# EAGLE library part VME1 (library connect)
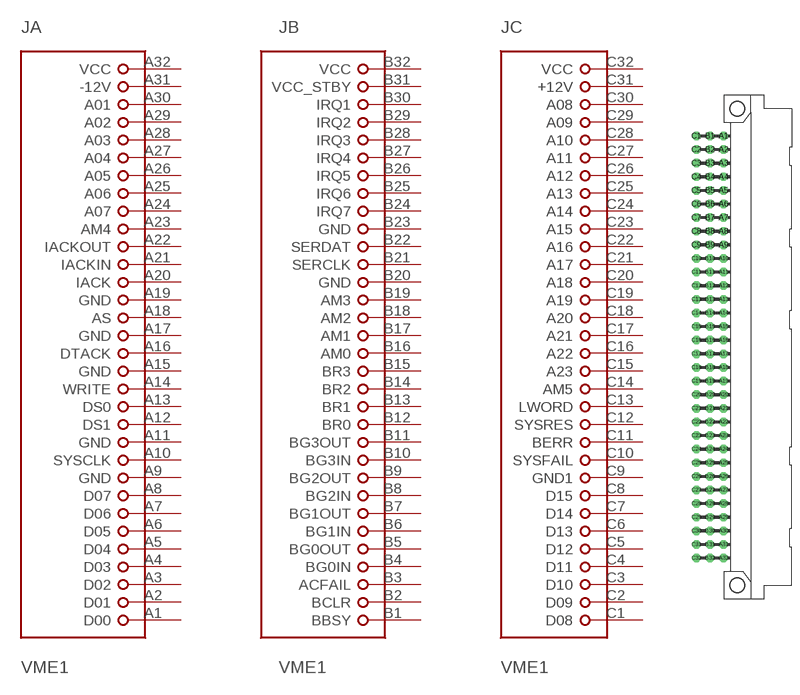
[diagram p16: symbol with the pads of VG96M/90; footprint VG96M/90]

Designator prefix J; gates A=VME1A B=VME1B C=VME1C

## VME1  [VG96M/90]
A1  A:D00  hiz
A2  A:D01  hiz
A3  A:D02  hiz
A4  A:D03  hiz
A5  A:D04  hiz
A6  A:D05  hiz
A7  A:D06  hiz
A8  A:D07  hiz
A9  A:GND  pwr
A10  A:SYSCLK
A11  A:GND  pwr
A12  A:DS1
A13  A:DS0
A14  A:WRITE
A15  A:GND  pwr
A16  A:DTACK  oc
A17  A:GND  pwr
A18  A:AS  hiz
A19  A:GND  pwr
A20  A:IACK  oc
A21  A:IACKIN
A22  A:IACKOUT
A23  A:AM4
A24  A:A07  in
A25  A:A06  in
A26  A:A05  in
A27  A:A04  in
A28  A:A03  in
A29  A:A02  in
A30  A:A01  in
A31  A:-12V  pwr
A32  A:VCC  pwr
B1  B:BBSY  oc
B2  B:BCLR
B3  B:ACFAIL  oc
B4  B:BG0IN  in
B5  B:BG0OUT  out
B6  B:BG1IN  in
B7  B:BG1OUT  out
B8  B:BG2IN  in
B9  B:BG2OUT  out
B10  B:BG3IN  in
B11  B:BG3OUT  out
B12  B:BR0  oc
B13  B:BR1  oc
B14  B:BR2  oc
B15  B:BR3  oc
B16  B:AM0
B17  B:AM1
B18  B:AM2
B19  B:AM3
B20  B:GND  pwr
B21  B:SERCLK
B22  B:SERDAT
B23  B:GND  pwr
B24  B:IRQ7  oc
B25  B:IRQ6  oc
B26  B:IRQ5  oc
B27  B:IRQ4  oc
B28  B:IRQ3  oc
B29  B:IRQ2  oc
B30  B:IRQ1  oc
B31  B:VCC_STBY  pwr
B32  B:VCC  pwr
C1  C:D08  hiz
C2  C:D09  hiz
C3  C:D10  hiz
C4  C:D11  hiz
C5  C:D12  hiz
C6  C:D13  hiz
C7  C:D14  hiz
C8  C:D15  hiz
C9  C:GND1  pwr
C10  C:SYSFAIL  oc
C11  C:BERR  oc
C12  C:SYSRES  oc
C13  C:LWORD
C14  C:AM5
C15  C:A23  in
C16  C:A22  in
C17  C:A21  in
C18  C:A20  in
C19  C:A19  in
C20  C:A18  in
C21  C:A17  in
C22  C:A16  in
C23  C:A15  in
C24  C:A14  in
C25  C:A13  in
C26  C:A12  in
C27  C:A11  in
C28  C:A10  in
C29  C:A09  in
C30  C:A08  in
C31  C:+12V  pwr
C32  C:VCC  pwr

## Footprint VG96M/90 (pad centres in mm)
drill 1.016 pad 1.575 octagon: A1 -5.08,39.37; A2 -5.08,36.83; A3 -5.08,34.29; A4 -5.08,31.75; A5 -5.08,29.21; A6 -5.08,26.67; A7 -5.08,24.13; A8 -5.08,21.59; A9 -5.08,19.05; A10 -5.08,16.51; A11 -5.08,13.97; A12 -5.08,11.43; A13 -5.08,8.89; A14 -5.08,6.35; A15 -5.08,3.81; A16 -5.08,1.27; A17 -5.08,-1.27; A18 -5.08,-3.81; A19 -5.08,-6.35; A20 -5.08,-8.89; A21 -5.08,-11.43; A22 -5.08,-13.97; A23 -5.08,-16.51; A24 -5.08,-19.05; A25 -5.08,-21.59; A26 -5.08,-24.13; A27 -5.08,-26.67; A28 -5.08,-29.21; A29 -5.08,-31.75; A30 -5.08,-34.29; A31 -5.08,-36.83; A32 -5.08,-39.37; B1 -7.62,39.37; B2 -7.62,36.83; B3 -7.62,34.29; B4 -7.62,31.75; B5 -7.62,29.21; B6 -7.62,26.67; B7 -7.62,24.13; B8 -7.62,21.59; B9 -7.62,19.05; B10 -7.62,16.51; B11 -7.62,13.97; B12 -7.62,11.43; B13 -7.62,8.89; B14 -7.62,6.35; B15 -7.62,3.81; B16 -7.62,1.27; B17 -7.62,-1.27; B18 -7.62,-3.81; B19 -7.62,-6.35; B20 -7.62,-8.89; B21 -7.62,-11.43; B22 -7.62,-13.97; B23 -7.62,-16.51; B24 -7.62,-19.05; B25 -7.62,-21.59; B26 -7.62,-24.13; B27 -7.62,-26.67; B28 -7.62,-29.21; B29 -7.62,-31.75; B30 -7.62,-34.29; B31 -7.62,-36.83; B32 -7.62,-39.37; C1 -10.16,39.37; C2 -10.16,36.83; C3 -10.16,34.29; C4 -10.16,31.75; C5 -10.16,29.21; C6 -10.16,26.67; C7 -10.16,24.13; C8 -10.16,21.59; C9 -10.16,19.05; C10 -10.16,16.51; C11 -10.16,13.97; C12 -10.16,11.43; C13 -10.16,8.89; C14 -10.16,6.35; C15 -10.16,3.81; C16 -10.16,1.27; C17 -10.16,-1.27; C18 -10.16,-3.81; C19 -10.16,-6.35; C20 -10.16,-8.89; C21 -10.16,-11.43; C22 -10.16,-13.97; C23 -10.16,-16.51; C24 -10.16,-19.05; C25 -10.16,-21.59; C26 -10.16,-24.13; C27 -10.16,-26.67; C28 -10.16,-29.21; C29 -10.16,-31.75; C30 -10.16,-34.29; C31 -10.16,-36.83; C32 -10.16,-39.37
hole 2.642 at -2.54,44.45
hole 2.642 at -2.54,-44.45